# EAGLE library part BLUETOOTH_MATE_SILVER (library custom)
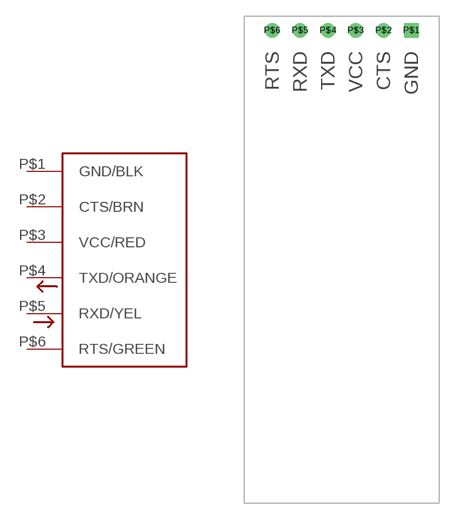
[diagram p24: symbol with the pads of BLUETOOTH_MATE_SILVER; footprint BLUETOOTH_MATE_SILVER]

Designator prefix -

## BLUETOOTH_MATE_SILVER  [BLUETOOTH_MATE_SILVER]
P$1  GND/BLK
P$2  CTS/BRN
P$3  VCC/RED
P$4  TXD/ORANGE
P$5  RXD/YEL
P$6  RTS/GREEN

## Footprint BLUETOOTH_MATE_SILVER (pad centres in mm)
drill 0.8 square: P$1 6.35,0
drill 0.8 round: P$2 3.81,0; P$3 1.27,0; P$4 -1.27,0; P$5 -3.81,0; P$6 -6.35,0